# EAGLE library part MAX14870ETC+T (library MAX14870)
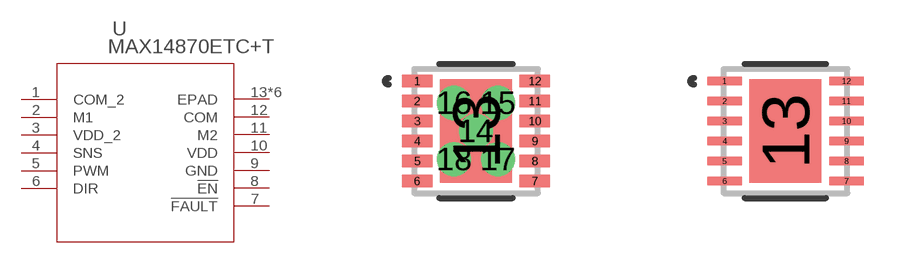
[diagram p0: symbol with the pads of 21-0664B; footprints 21-0664B, 21-0664B-M]

Designator prefix U

## MAX14870ETC+T (BUILT_BY: EMA_UL_Team; COPYRIGHT: Copyright (C) 2018 Accelerated Designs. All rights reserved; MANUFACTURER_PART_NUMBER: MAX14870ETC+T; SOURCELIBRARY: Maxim_2018-11-30; VENDOR: Maxim Integrated Products)  [21-0664B]
1  COM_2  pas
2  M1
3  VDD_2  pwr
4  SNS  pas
5  PWM  pas
6  DIR  pas
7  !FAULT  pas
8  !EN  pas
9  GND  pas
10  VDD  pwr
11  M2
12  COM  pas
13  EPAD  pas
14  EPAD  pas
15  EPAD  pas
16  EPAD  pas
17  EPAD  pas
18  EPAD  pas

## MAX14870ETC+T21-0664B-M (BUILT_BY: EMA_UL_Team; COPYRIGHT: Copyright (C) 2018 Accelerated Designs. All rights reserved; MANUFACTURER_PART_NUMBER: MAX14870ETC+T; SOURCELIBRARY: Maxim_2018-11-30; VENDOR: Maxim Integrated Products)  [21-0664B-M]
1  COM_2  pas
2  M1
3  VDD_2  pwr
4  SNS  pas
5  PWM  pas
6  DIR  pas
7  !FAULT  pas
8  !EN  pas
9  GND  pas
10  VDD  pwr
11  M2
12  COM  pas
13  EPAD  pas

## MAX14870ETC+T21-0664B-L (BUILT_BY: EMA_UL_Team; COPYRIGHT: Copyright (C) 2018 Accelerated Designs. All rights reserved; MANUFACTURER_PART_NUMBER: MAX14870ETC+T; SOURCELIBRARY: Maxim_2018-11-30; VENDOR: Maxim Integrated Products)  [21-0664B-L]
Pads as for 21-0664B-M

## Footprint 21-0664B (pad centres in mm)
smd 0.762 x 0.305: 1 -1.473,1.25; 2 -1.473,0.75; 3 -1.473,0.25; 4 -1.473,-0.25; 5 -1.473,-0.75; 6 -1.473,-1.25; 7 1.473,-1.25; 8 1.473,-0.75; 9 1.473,-0.25; 10 1.473,0.25; 11 1.473,0.75; 12 1.473,1.25
smd 1.803 x 2.591: 13 0,0
drill 0.35 pad 0.61: 14 0,0; 15 0.549,0.704; 16 -0.549,0.704; 17 0.549,-0.704; 18 -0.549,-0.704

## Footprint 21-0664B-M (pad centres in mm)
smd 0.864 x 0.203: 1 -1.524,1.25; 2 -1.524,0.75; 3 -1.524,0.25; 4 -1.524,-0.25; 5 -1.524,-0.75; 6 -1.524,-1.25; 7 1.524,-1.25; 8 1.524,-0.75; 9 1.524,-0.25; 10 1.524,0.25; 11 1.524,0.75; 12 1.524,1.25
smd 1.803 x 2.591: 13 0,0

## Footprint 21-0664B-L (pad centres in mm)
smd 0.66 x 0.203: 1 -1.422,1.25; 2 -1.422,0.75; 3 -1.422,0.25; 4 -1.422,-0.25; 5 -1.422,-0.75; 6 -1.422,-1.25; 7 1.422,-1.25; 8 1.422,-0.75; 9 1.422,-0.25; 10 1.422,0.25; 11 1.422,0.75; 12 1.422,1.25
smd 1.803 x 2.591: 13 0,0